# EAGLE library part MAX17040-TDFN (library glasses)
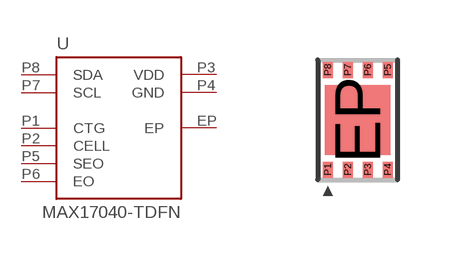
[diagram p2: symbol with the pads of TDFN_8PIN; footprint TDFN_8PIN]

Designator prefix -

## MAX17040-TDFN  [TDFN_8PIN]
EP  EP
P1  CTG
P2  CELL
P3  VDD
P4  GND
P5  SEO
P6  EO
P7  SCL
P8  SDA

## Footprint TDFN_8PIN (pad centres in mm)
smd 1.63 x 1.75: EP 1,0
smd 0.25 x 0.4: P1 0.25,-1.25; P2 0.75,-1.25; P3 1.25,-1.25; P4 1.75,-1.25; P5 1.75,1.25; P6 1.25,1.25; P7 0.75,1.25; P8 0.25,1.25